# Altium footprint library BLDC_Motor_Driver.PcbLib: 122 footprints (part 2 of 8)
Each footprint in its own frame and in the unit in brackets; x right, y up, seen from the top. Pads: shape width x height; smd on the part's side, far side on the other; paste and mask are expansions set on the pad; w line width, h text height; cw(c..) or ccw(c..) is an arc to the next point about the centre after c.
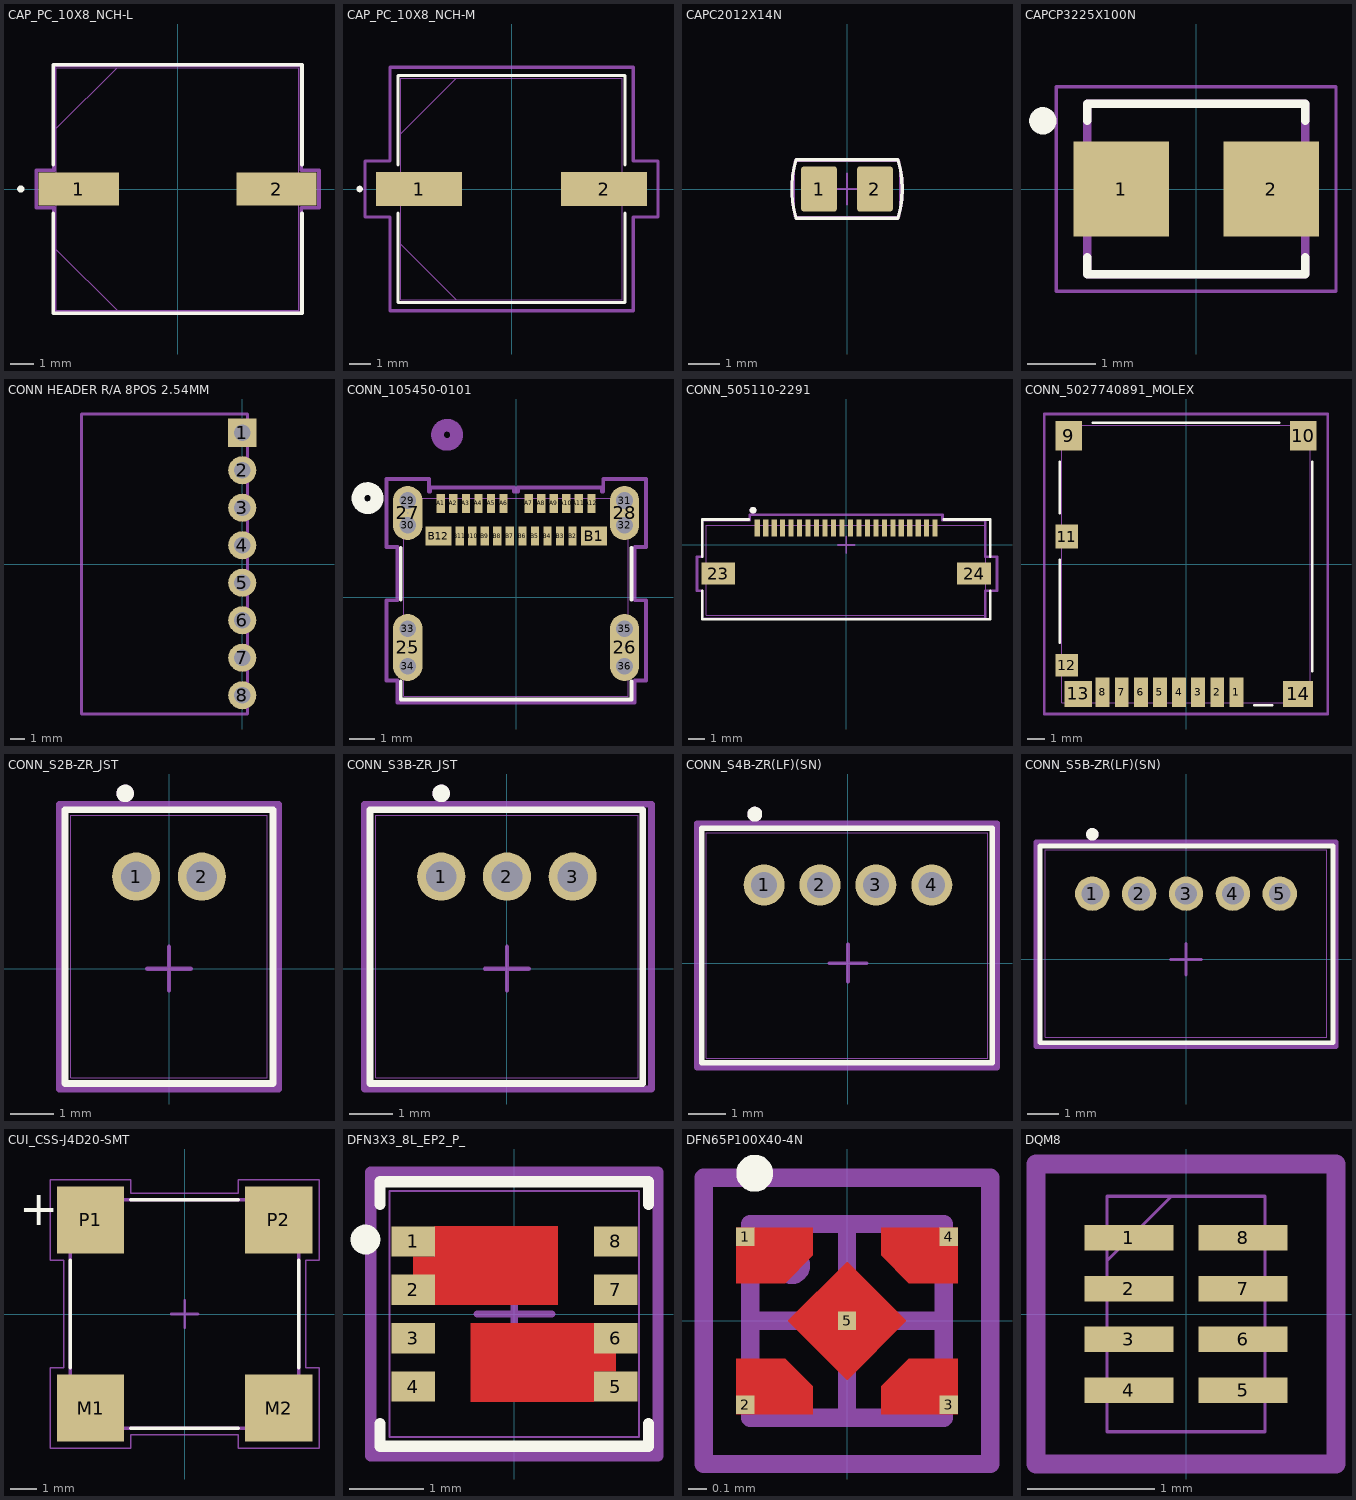
[diagram p1: the footprints below, top view; thin cyan lines are the x and y axes]

## CAP_PC_10X8_NCH-L [mil]
pads (2):
  rect 134x55 smd paste+0 mask+0: 1(-165.5,0) 2(165.5,0)
Top Overlay:
  circle w6: c-262.5,0 r3
  lines w6: -208,-40.6 -208,-208 208,-208 208,-40.6 ; -208,40.6 -208,208 208,208 208,40.6
3D Body TOP:
  lines w1: -203,-101.5 -101.5,-203 ; -203,101.5 -101.5,203 ; -203,-203 -203,203 203,203 203,-203 -203,-203
Courtyard TOP:
  lines w6: -236.5,-31.5 -207,-31.5 -207,-207 207,-207 207,-31.5 236.5,-31.5 236.5,31.5 207,31.5 207,207 -207,207 -207,31.5 -236.5,31.5 -236.5,-31.5

## CAP_PC_10X8_NCH-M [mil]
pads (2):
  rect 158x63 smd paste+0 mask+0: 1(-169.5,0) 2(169.5,0)
Top Overlay:
  circle w6: c-278.5,0 r3
  lines w6: -208,-44.6 -208,-208 208,-208 208,-44.6 ; -208,44.6 -208,208 208,208 208,44.6
3D Body TOP:
  lines w1: -203,-101.5 -101.5,-203 ; -203,101.5 -101.5,203 ; -203,-203 -203,203 203,203 203,-203 -203,-203
Courtyard TOP:
  lines w6: -268.5,-51.5 -223,-51.5 -223,-223 223,-223 223,-51.5 268.5,-51.5 268.5,51.5 223,51.5 223,223 -223,223 -223,51.5 -268.5,51.5 -268.5,-51.5

## CAPC2012X14N [mm] "Chip Capacitor, 2-Leads, Body 2.00x1.25mm, IPC Medium Density"
height 1.4
pads (2):
  rrect15% 1.15x1.45 smd: 1(-0.9,0) 2(0.9,0)
Top Overlay:
  lines w0.1: -1.64,-0.94 1.64,-0.94 ; -1.64,-0.938 cw(c1.524,0) -1.638,0.945 ; -1.638,0.94 1.64,0.94 ; 1.64,-0.938 ccw(c-1.524,0) 1.64,0.937
TOP ASSY:
  lines w0.1: -1.64,-0.94 1.64,-0.94 ; -1.64,-0.938 cw(c1.524,0) -1.638,0.945 ; -1.638,0.94 1.64,0.94 ; 1.64,-0.938 ccw(c-1.524,0) 1.64,0.937
  text ".Designator" at -1,-0.2 h0.5
Courtyard TOP:
  lines w0.05: -0.5,0 0.5,0 ; 0,-0.5 0,0.5
  lines w0.051: -1.7,-0.889 1.7,-0.889 1.7,0.889 -1.7,0.889 -1.7,-0.889
3D body "C0805C101JAGACTU.step": height 0.88, standoff 0, extent -1.1,-0.725 1.1,0.725

## CAPCP3225X100N [mm]
pads (2):
  rect 1.4x1.4 smd: 1(-1.1,0) 2(1.1,0)
Top Overlay:
  circle w0.2: c-2.25,1 r0.1
  lines w0.127: -1.6,-1 -1.6,-1.25 1.6,-1.25 1.6,-1 ; -1.6,1 -1.6,1.25 1.6,1.25 1.6,1
3D Body TOP:
  lines w0.127: -1.6,-1.25 1.6,-1.25 1.6,1.25 -1.6,1.25 -1.6,-1.25
Courtyard TOP:
  lines w0.05: -2.05,-1.5 2.05,-1.5 2.05,1.5 -2.05,1.5 -2.05,-1.5
3D body "CPH3225A--3DModel-STEP-56544.STEP": height 1, standoff 0, extent -1.6,-1.25 1.6,1.25

## CONN HEADER R/A 8POS 2.54MM [mm] "Connector Header Through Hole, Right Angle 8 position 0.100\" (2.54mm)"
height 2.36
pads (8):
  rect 1.9x1.9 hole 1.1: 1(0,8.89)
  round 1.9 hole 1.1: 2(0,6.35) 3(0,3.81) 4(0,1.27) 5(0,-1.27) 6(0,-3.81) 7(0,-6.35) 8(0,-8.89)
TOP ASSY:
  lines w0.2: -10.875,-10.16 -10.875,10.16 0.345,10.16 0.345,-10.16 -10.875,-10.16
3D body "m20-9960845_asm.stp": height 2.59, standoff -2.95, extent -10.875,-10.16 0.345,10.16

## CONN_105450-0101 [mil]
pads (36):
  oval 46x105 hole 1 mask+0: 25(-170.08,-78.71) 26(170.08,-78.71)
  oval 46x85 hole 1 mask+0: 27(-170.08,132.31) 28(170.08,132.31)
  round 26 hole 26: 29(-170.08,151.81) 30(-170.08,112.81) 31(170.08,151.81) 32(170.08,112.81) 33(-170.08,-49.21) 34(-170.08,-108.21) 35(170.08,-49.21) 36(170.08,-108.21)
  rect 13x30 smd paste+0 mask+0: A1(-118.11,147.23) A2(-98.43,147.23) A3(-78.74,147.23) A4(-59.06,147.23) A5(-39.37,147.23) A6(-19.68,147.23) A7(19.68,147.23) A8(39.37,147.23) A9(59.06,147.23) A10(78.74,147.23) A11(98.43,147.23) A12(118.11,147.23) B2(88.58,96.05) B3(68.9,96.05) B4(49.21,96.05) B5(29.53,96.05) B6(9.84,96.05) B7(-9.84,96.05) B8(-29.53,96.05) B9(-49.21,96.05) B10(-68.9,96.05) B11(-88.58,96.05)
  rect 41x30 smd paste+0 mask+0: B1(122.05,96.05) B12(-122.05,96.05)
Top Overlay:
  circle w20: c-233.08,155.5 r15
  lines w6: -181,-132.12 -181,-160.5 181,-160.5 181,-132.12 ; -181,-3.26 -181,77.38 ; 181,-3.26 181,77.38
Bottom Overlay:
  circle w20: c-233.08,155.5 r15
3D Body TOP:
  circle w20: c-108.27,254.91 r15
  lines w1: -176,-155.5 176,-155.5 176,155.5 -176,155.5 -176,-155.5
Courtyard TOP:
  lines w6: -203.58,-130.69 -186,-130.69 -186,-165.5 186,-165.5 186,-130.69 203.58,-130.69 203.58,-4.69 186,-4.69 186,78.81 203.58,78.81 203.58,185.81 136.58,185.81 136.58,165.5 134.61,165.5 134.61,172.23 3.19,172.23 3.19,165.5 -3.19,165.5 -3.19,172.23 -134.61,172.23 -134.61,165.5 -136.58,165.5 -136.58,185.81 -203.58,185.81 -203.58,78.81 -186,78.81 -186,-4.69 -203.58,-4.69 -203.58,-130.69
Multi-Layer:
  lines w26: -170.08,-108.21 -170.08,-49.21 ; -170.08,112.81 -170.08,151.81 ; 170.08,-108.21 170.08,-49.21 ; 170.08,112.81 170.08,151.81
3D body "1054500101.stp": height 129.13, standoff -26.77, extent -175.98,-155.5 175.98,155.52

## CONN_505110-2291 [mm]
pads (24):
  rect 0.3x1 smd mask+0.05: 1(-5.25,1) 2(-4.75,1) 3(-4.25,1) 4(-3.75,1) 5(-3.25,1) 6(-2.75,1) 7(-2.25,1) 8(-1.75,1) 9(-1.25,1) 10(-0.75,1) 11(-0.25,1) 12(0.25,1) 13(0.75,1) 14(1.25,1) 15(1.75,1) 16(2.25,1) 17(2.75,1) 18(3.25,1) 19(3.75,1) 20(4.25,1) 21(4.75,1) 22(5.25,1)
  rect 2x1.3 smd mask+0.05: 23(-7.55,-1.7) 24(7.55,-1.7)
Top Overlay:
  circle w0.2: c-5.5,2.046 r0.1
  lines w0.152: -8.5,-2.706 -8.5,-4.4 8.5,-4.4 8.5,-2.706 ; -8.5,-0.694 -8.5,1.5 -5.761,1.5 ; 5.761,1.5 8.5,1.5 8.5,-0.694
Bottom Overlay:
  circle w0.2: c-5.5,2.046 r0.1
3D Body TOP:
  circle w0.2: c-5.5,2.046 r0.1
  lines w0.025: -8.25,-4.15 -8.25,1.15 8.25,1.15 8.25,-4.15 -8.25,-4.15
Courtyard TOP:
  lines w0.1: -0.5,0 0.5,0 ; 0,-0.5 0,0.5
  lines w0.152: -8.807,-2.7 -8.5,-2.7 -8.5,-4.363 8.204,-4.363 8.204,-2.7 8.9,-2.7 8.9,-0.7 8.204,-0.7 8.204,1.454 5.682,1.454 5.682,1.775 -5.682,1.775 -5.682,1.454 -8.5,1.454 -8.5,-0.7 -8.807,-0.7 -8.807,-2.7
3D body "5051102291.stp": height 1.88, standoff -0.02, extent -8.25,-4.154 8.25,1.146

## CONN_5027740891_MOLEX [mm] "10 (8 + 2) Position Card Connector Secure Digital - microSD™ Surface Mount, Right Angle Gold"
height 1.8
pads (14):
  rect 0.8x1.68 smd paste+0 mask+0: 1(2.899,-7.387) 2(1.799,-7.387) 3(0.699,-7.387) 4(-0.401,-7.387) 5(-1.501,-7.387) 6(-2.601,-7.387) 7(-3.701,-7.387) 8(-4.801,-7.387)
  rect 1.499x1.702 smd: 9(-6.751,7.374) 10(6.751,7.374)
  rect 1.295x1.397 smd paste+0 mask+0: 11(-6.859,1.577)
  rect 1.295x1.295 smd: 12(-6.859,-5.823)
  rect 1.6x1.499 smd: 13(-6.201,-7.476)
  rect 1.702x1.499 smd: 14(6.449,-7.476)
Top Overlay:
  lines w0.152: -7.277,-4.521 -7.277,0.254 ; -7.277,2.917 -7.277,5.888 ; -5.366,8.128 5.366,8.128 ; 3.94,-8.128 4.967,-8.128 ; 7.277,-6.174 7.277,5.888
3D Body TOP:
  lines w0.025: -7.15,-8.001 7.15,-8.001 7.15,8.001 -7.15,8.001 -7.15,-8.001
Courtyard TOP:
  lines w0.152: -8.166,-8.636 8.166,-8.636 8.166,8.636 -8.166,8.636 -8.166,-8.636

## CONN_S2B-ZR_JST [mm] "Connector Header Through Hole, Right Angle 2 position 0.059\" (1.50mm)"
height 3.7
pads (2):
  round 1.1 hole 0.7: 1(-0.75,2.1) 2(0.75,2.1)
Top Overlay:
  circle w0.2: c-1,4 r0.1
  lines w0.152: -2.375,-2.621 2.375,-2.621 2.375,3.627 -2.375,3.627 -2.375,-2.621
Bottom Overlay:
  circle w0.2: c-1,4 r0.1
3D Body TOP:
  circle w0.2: c-1,4 r0.1
  lines w0.025: -2.248,-2.494 2.248,-2.494 2.248,3.5 -2.248,3.5 -2.248,-2.494
Courtyard TOP:
  lines w0.1: -0.5,0 0.5,0 ; 0,-0.5 0,0.5
  lines w0.152: -2.502,-2.748 -2.502,3.754 2.502,3.754 2.502,-2.748 -2.502,-2.748
3D body "S2B-ZR.STEP": height 3.8, standoff -2.6, extent -2.25,-2.494 2.25,3.506

## CONN_S3B-ZR_JST [mm] "Connector Header Through Hole, Right Angle 3 position 0.059\" (1.50mm)"
height 3.7
pads (3):
  round 1.1 hole 0.7: 1(-1.5,2.1) 2(0,2.1) 3(1.5,2.1)
Top Overlay:
  circle w0.2: c-1.5,4 r0.1
  lines w0.152: -3.125,-2.621 3.1,-2.621 3.1,3.627 -3.125,3.627 -3.125,-2.621
Bottom Overlay:
  circle w0.2: c-1.5,4 r0.1
3D Body TOP:
  circle w0.2: c-1.5,4 r0.1
  lines w0.025: -2.998,-2.494 3,-2.494 3,3.5 -2.998,3.5 -2.998,-2.494
Courtyard TOP:
  lines w0.1: -0.5,0 0.5,0 ; 0,-0.5 0,0.5
  lines w0.152: -3.252,-2.748 -3.252,3.754 3.3,3.754 3.3,-2.748 -3.252,-2.748
3D body "S3B-ZR.STEP": height 3.8, standoff -2.6, extent -3,-2.494 3,3.506

## CONN_S4B-ZR(LF)(SN) [mm] "CONN HEADER R/A 4POS 1.5MM"
height 3.7
pads (4):
  round 1.1 hole 0.7: 1(-2.25,2.1) 2(-0.75,2.1) 3(0.75,2.1) 4(2.25,2.1)
Top Overlay:
  circle w0.2: c-2.5,4 r0.1
  lines w0.152: -3.924,-2.672 3.874,-2.672 3.874,3.627 -3.924,3.627 -3.924,-2.672
Bottom Overlay:
  circle w0.2: c-2.5,4 r0.1
3D Body TOP:
  circle w0.2: c-2.5,4 r0.1
  lines w0.025: -3.797,-2.545 3.747,-2.545 3.747,3.5 -3.797,3.5 -3.797,-2.545
Courtyard TOP:
  lines w0.1: -0.5,0 0.5,0 ; 0,-0.5 0,0.5
  lines w0.152: -4.051,-2.799 -4.051,3.754 4.001,3.754 4.001,-2.799 -4.051,-2.799
3D body "S4B-ZR.STEP": height 3.8, standoff -2.6, extent -3.75,-2.5 3.75,3.5

## CONN_S5B-ZR(LF)(SN) [mm] "CONN HEADER R/A 5POS 1.5MM"
height 3.7
pads (5):
  round 1.1 hole 0.7: 1(-3,2.1) 2(-1.5,2.1) 3(0,2.1) 4(1.5,2.1) 5(3,2.1)
Top Overlay:
  circle w0.2: c-3,4 r0.1
  lines w0.152: -4.674,-2.672 -4.674,3.627 4.7,3.627 4.7,-2.672 -4.674,-2.672
Bottom Overlay:
  circle w0.2: c-3,4 r0.1
3D Body TOP:
  circle w0.2: c-3,4 r0.1
  lines w0.025: -4.5,-2.5 -4.5,3.5 4.5,3.5 4.5,-2.5 -4.5,-2.5
Courtyard TOP:
  lines w0.1: -0.5,0 0.5,0 ; 0,-0.5 0,0.5
  lines w0.152: -4.801,-2.799 4.8,-2.799 4.8,3.754 -4.801,3.754 -4.801,-2.799
3D body "S5B-ZR.STEP": height 3.8, standoff -2.6, extent -4.5,-2.5 4.5,3.5

## CUI_CSS-J4D20-SMT [mm]
pads (4):
  rect 2.5x2.5 smd: M1(-3.5,-3.5) M2(3.5,-3.5) P1(-3.5,3.5) P2(3.5,3.5)
Top Overlay:
  lines w0.127: -4.25,-2 -4.25,2 ; -2,-4.25 2,-4.25 ; -2,4.25 2,4.25 ; 4.25,-2 4.25,2
  text "+" at -6.161,3.306 h1.27
3D Body TOP:
  lines w0.127: -4.25,-4.25 4.25,-4.25 4.25,4.25 -4.25,4.25 -4.25,-4.25
Courtyard TOP:
  lines w0.05: -5,-5 -2,-5 -2,-4.5 2,-4.5 2,-5 5,-5 5,-2 4.5,-2 4.5,2 5,2 5,5 2,5 2,4.5 -2,4.5 -2,5 -5,5 -5,2 -4.5,2 -4.5,-2 -5,-2 -5,-5
  lines w0.1: -0.5,0 0.5,0 ; 0,-0.5 0,0.5
3D body "CUI_DEVICES_CSS-J4D20-SMT-TR.step": height 3.22, standoff 0.01, extent -4.25,-4.25 4.25,4.25

## DFN3X3_8L_EP2_P_ [mm]
pads (8):
  rect 0.584x0.406 smd mask+0: 1(-1.36,0.975) 2(-1.36,0.325) 3(-1.36,-0.325) 4(-1.36,-0.975) 5(1.36,-0.975) 6(1.36,-0.325) 7(1.36,0.325) 8(1.36,0.975)
Top Layer:
  region: -1.068,0.528 -1.36,0.528 -1.36,0.772 -1.068,0.772 -1.068,1.178 0.585,1.178 0.585,0.122 -1.068,0.122
  region: 1.068,-0.528 1.36,-0.528 1.36,-0.772 1.068,-0.772 1.068,-1.178 -0.585,-1.178 -0.585,-0.122 1.068,-0.122
Top Overlay:
  circle w0.2: c-2,1 r0.1
  lines w0.152: -1.803,-1.475 -1.803,-1.778 1.803,-1.778 1.803,-1.475 ; -1.803,1.475 -1.803,1.778 1.803,1.778 1.803,1.475
Top Paste:
  region: -1.068,0.528 -1.36,0.528 -1.36,0.772 -1.068,0.772 -1.068,1.178 0.585,1.178 0.585,0.122 -1.068,0.122
  region: 1.068,-0.528 1.36,-0.528 1.36,-0.772 1.068,-0.772 1.068,-1.178 -0.585,-1.178 -0.585,-0.122 1.068,-0.122
Top Solder:
  region: -1.068,0.528 -1.36,0.528 -1.36,0.772 -1.068,0.772 -1.068,1.178 0.585,1.178 0.585,0.122 -1.068,0.122
  region: 1.068,-0.528 1.36,-0.528 1.36,-0.772 1.068,-0.772 1.068,-1.178 -0.585,-1.178 -0.585,-0.122 1.068,-0.122
3D Body TOP:
  lines w0.025: -1.676,-1.651 -1.676,1.651 1.676,1.651 1.676,-1.651 -1.676,-1.651
Courtyard TOP:
  lines w0.1: -0.5,0 0.5,0 ; 0,-0.5 0,0.5
  lines w0.152: -1.93,-1.905 1.93,-1.905 1.93,-1.432 1.93,1.432 1.93,1.905 -1.93,1.905 -1.93,1.432 -1.93,-1.432 -1.93,-1.905

## DFN65P100X40-4N [mm] "DFN, 4-Leads, Body 1.00x1.00mm, Pitch 0.65mm, IPC Medium Density"
height 0.4
pads (5):
  rect 0.1x0.1 smd paste-0.2 mask-0.2: 1(-0.55,0.455) 2(-0.55,-0.455) 3(0.55,-0.455) 4(0.55,0.455) 5(0,0)
Top Layer:
  region: 0,-0.323 0.323,0 0,0.323 -0.323,0
  region: -0.6,0.505 -0.6,0.205 -0.335,0.205 -0.185,0.355 -0.185,0.505
  region: 0.6,-0.505 0.6,-0.205 0.335,-0.205 0.185,-0.355 0.185,-0.505
  region: 0.6,0.505 0.6,0.205 0.335,0.205 0.185,0.355 0.185,0.505
  region: -0.6,-0.505 -0.6,-0.205 -0.335,-0.205 -0.185,-0.355 -0.185,-0.505
Top Overlay:
  circle w0.1: c-0.5,0.8 r0.05
Top Paste:
  region: 0,-0.323 0.323,0 0,0.323 -0.323,0
  region: -0.6,-0.505 -0.6,-0.205 -0.335,-0.205 -0.185,-0.355 -0.185,-0.505
  region: 0.6,0.505 0.6,0.205 0.335,0.205 0.185,0.355 0.185,0.505
  region: 0.6,-0.505 0.6,-0.205 0.335,-0.205 0.185,-0.355 0.185,-0.505
  region: -0.6,0.505 -0.6,0.205 -0.335,0.205 -0.185,0.355 -0.185,0.505
Top Solder:
  region: 0,-0.359 0.359,0 0,0.359 -0.359,0
  region: -0.625,0.53 -0.625,0.18 -0.335,0.18 -0.16,0.355 -0.16,0.53
  region: 0.625,-0.53 0.625,-0.18 0.335,-0.18 0.16,-0.355 0.16,-0.53
  region: 0.625,0.53 0.625,0.18 0.335,0.18 0.16,0.355 0.16,0.53
  region: -0.625,-0.53 -0.625,-0.18 -0.335,-0.18 -0.16,-0.355 -0.16,-0.53
TOP ASSY:
  circle w0.1: c-0.3,0.3 r0.05
  lines w0.1: -0.525,-0.525 -0.525,0.525 0.525,0.525 0.525,-0.525 -0.525,-0.525
  text "'.Designator'" at -1.016,0.762 h0.5
Courtyard TOP:
  lines w0.1: -0.5,0 0.5,0 ; 0,-0.5 0,0.5 ; -0.775,-0.775 -0.775,0.775 0.775,0.775 0.775,-0.775 -0.775,-0.775
3D body "DFN65P100X40-4N.step": height 0.4, standoff 0, extent -0.525,-0.525 0.525,0.525

## DQM8 [mm]
pads (8):
  rect 0.7x0.2 smd mask+0.05: 1(-0.45,0.6) 2(-0.45,0.2) 3(-0.45,-0.2) 4(-0.45,-0.6) 5(0.45,-0.6) 6(0.45,-0.2) 7(0.45,0.2) 8(0.45,0.6)
3D Body TOP:
  lines w0.025: -0.622,0.419 -0.114,0.927 ; -0.622,-0.927 0.622,-0.927 0.622,0.927 -0.622,0.927 -0.622,-0.927
Courtyard TOP:
  lines w0.152: -1.181,-1.181 -1.181,1.181 1.181,1.181 1.181,-1.181 -1.181,-1.181
3D body "DQM0008A.stp": height 0.5, standoff 0, extent -0.6,-0.9 0.6,0.9